# Altium schematic symbol library SCH - POWER - LINEAR VREG - TI TLV70430DBV.SchLib: 1 symbol
Pins are listed as number, name and electrical type; pins without a type are passive.

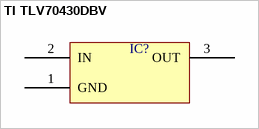
[diagram p0: symbol TI TLV70430DBV]

## TI TLV70430DBV
designator IC?  (value not drawn)
pins: 1 GND, 2 IN, 3 OUT